# Altium footprint library curgen.PcbLib: 17 footprints (part 2 of 2)
Each footprint in its own frame and in the unit in brackets; x right, y up, seen from the top. Pads: shape width x height; smd on the part's side, far side on the other; paste and mask are expansions set on the pad; w line width, h text height; cw(c..) or ccw(c..) is an arc to the next point about the centre after c.
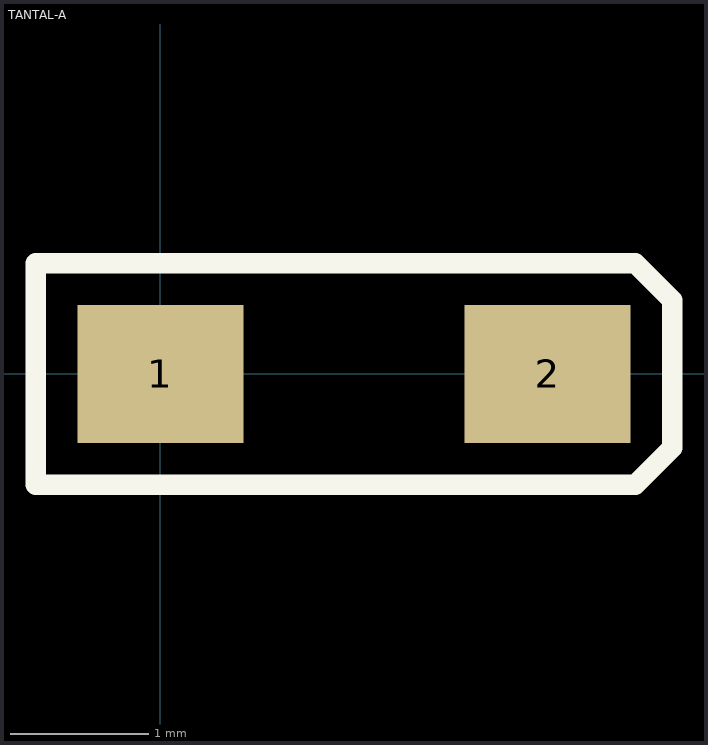
[diagram p1: the footprint, top view; thin cyan lines are the x and y axes]

## TANTAL-A [mm]
pads (2):
  rect 1.2x1 smd: 1(0,0) 2(2.8,0)
Top Overlay:
  lines w0.15: -0.9,-0.8 3.433,-0.8 3.7,-0.533 3.7,0.533 3.433,0.8 -0.9,0.8 -0.9,0 -0.9,-0.8